# Altium schematic symbol library Ferrite Chip.SchLib: 462 symbols (part 3 of 7)
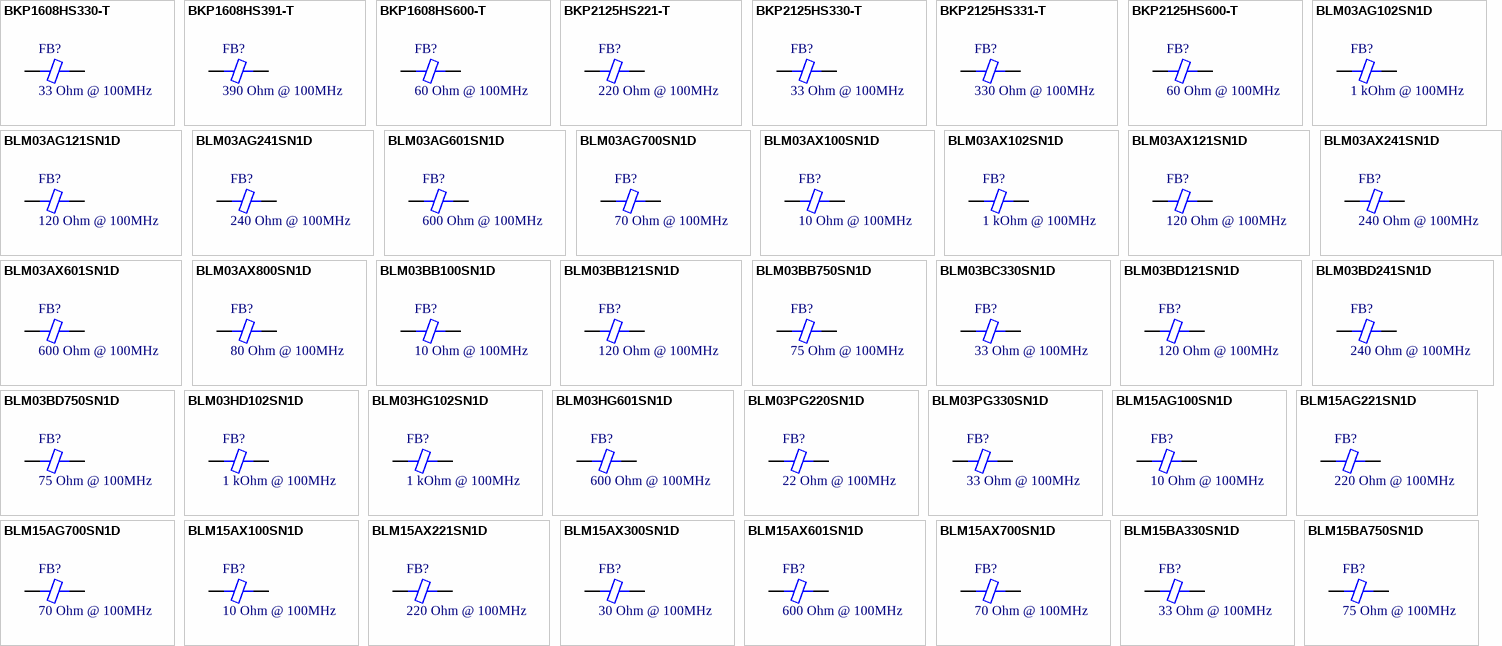
[diagram p13: symbols BKP1608HS330-T to BLM15BA750SN1D]

## BLM03BD750SN1D
designator FB?, comment 75 Ohm @ 100MHz
FERRITE BEAD 75 OHM 0201 1LN; Part Number: BLM03BD750SN1D; Manufacturer: Murata Electronics North America; DC Resistance: 400 mOhm; Current Rating: 300mA; PartId: 20390; Value: 75 Ohm @ 100MHz; Supplier 1: Digi-Key; Supplier Part Number 1: 490-5171-2-ND; ComponentLink1Description: Datasheet; ComponentLink1URL: http://www.murata.com/~/media/webrenewal/products/emiconfun/mail/2011/02/14/en-20110214/l0110s0100blm03b.ashx?la=en; ComponentLink2Description: Digi-Key Listing; ComponentLink2URL: https://www.digikey.com/product-detail/en/murata-electronics-north-america/BLM03BD750SN1D/490-5171-2-ND/1948278; Price: 0.0305; Device Package: 0201 (0603 Metric)
footprint FER 0201/0603
pins: 1, 2

## BLM03HD102SN1D
designator FB?, comment 1 kOhm @ 100MHz
FERRITE BEAD 1 KOHM 0201 1LN; Part Number: BLM03HD102SN1D; Manufacturer: Murata Electronics North America; DC Resistance: 2.9 Ohm; Current Rating: 120mA; PartId: 20362; Value: 1 kOhm @ 100MHz; Supplier 1: Digi-Key; Supplier Part Number 1: 490-11015-2-ND; ComponentLink1Description: Datasheet; ComponentLink1URL: http://search.murata.co.jp/Ceramy/image/img/PDF/ENG/L0110S0101BLM03H.pdf; ComponentLink2Description: Digi-Key Listing; ComponentLink2URL: https://www.digikey.com/product-detail/en/murata-electronics-north-america/BLM03HD102SN1D/490-11015-2-ND/2815648; Price: 0.0927; Device Package: 0201 (0603 Metric)
footprint FER 0201/0603
pins: 1, 2

## BLM03HG102SN1D
designator FB?, comment 1 kOhm @ 100MHz
FERRITE BEAD 1 KOHM 0201 1LN; Part Number: BLM03HG102SN1D; Manufacturer: Murata Electronics North America; DC Resistance: 2.6 Ohm; Current Rating: 125mA; PartId: 20361; Value: 1 kOhm @ 100MHz; Supplier 1: Digi-Key; Supplier Part Number 1: 490-5627-2-ND; ComponentLink1Description: Datasheet; ComponentLink1URL: http://search.murata.co.jp/Ceramy/image/img/PDF/ENG/L0110S0101BLM03H.pdf; ComponentLink2Description: Digi-Key Listing; ComponentLink2URL: https://www.digikey.com/product-detail/en/murata-electronics-north-america/BLM03HG102SN1D/490-5627-2-ND/2485958; Price: 0.087; Device Package: 0201 (0603 Metric)
footprint FER 0201/0603
pins: 1, 2

## BLM03HG601SN1D
designator FB?, comment 600 Ohm @ 100MHz
FERRITE BEAD 600 OHM 0201 1LN; Part Number: BLM03HG601SN1D; Manufacturer: Murata Electronics North America; DC Resistance: 1.6 Ohm; Current Rating: 150mA; PartId: 20360; Value: 600 Ohm @ 100MHz; Supplier 1: Digi-Key; Supplier Part Number 1: 490-5626-2-ND; ComponentLink1Description: Datasheet; ComponentLink1URL: http://search.murata.co.jp/Ceramy/image/img/PDF/ENG/L0110S0101BLM03H.pdf; ComponentLink2Description: Digi-Key Listing; ComponentLink2URL: https://www.digikey.com/product-detail/en/murata-electronics-north-america/BLM03HG601SN1D/490-5626-2-ND/2485957; Price: 0.087; Device Package: 0201 (0603 Metric)
footprint FER 0201/0603
pins: 1, 2

## BLM03PG220SN1D
designator FB?, comment 22 Ohm @ 100MHz
FERRITE BEAD 22 OHM 0201 1LN; Part Number: BLM03PG220SN1D; Manufacturer: Murata Electronics North America; DC Resistance: 65 mOhm; Current Rating: 900mA; PartId: 20376; Value: 22 Ohm @ 100MHz; Supplier 1: Digi-Key; Supplier Part Number 1: 490-5174-2-ND; ComponentLink1Description: Datasheet; ComponentLink1URL: http://search.murata.co.jp/Ceramy/image/img/PDF/ENG/L0110S0100BLM03PG.pdf; ComponentLink2Description: Digi-Key Listing; ComponentLink2URL: https://www.digikey.com/product-detail/en/murata-electronics-north-america/BLM03PG220SN1D/490-5174-2-ND/1948281; Price: 0.0322; Device Package: 0201 (0603 Metric)
footprint FER 0201/0603
pins: 1, 2

## BLM03PG330SN1D
designator FB?, comment 33 Ohm @ 100MHz
FERRITE BEAD 33 OHM 0201 1LN; Part Number: BLM03PG330SN1D; Manufacturer: Murata Electronics North America; DC Resistance: 90 mOhm; Current Rating: 750mA; PartId: 20375; Value: 33 Ohm @ 100MHz; Supplier 1: Digi-Key; Supplier Part Number 1: 490-5175-2-ND; ComponentLink1Description: Datasheet; ComponentLink1URL: http://search.murata.co.jp/Ceramy/image/img/PDF/ENG/L0110S0100BLM03PG.pdf; ComponentLink2Description: Digi-Key Listing; ComponentLink2URL: https://www.digikey.com/product-detail/en/murata-electronics-north-america/BLM03PG330SN1D/490-5175-2-ND/1948282; Price: 0.0322; Device Package: 0201 (0603 Metric)
footprint FER 0201/0603
pins: 1, 2

## BLM15AG100SN1D
designator FB?, comment 10 Ohm @ 100MHz
FERRITE CHIP 10 OHM 1000MA 0402; Part Number: BLM15AG100SN1D; Manufacturer: Murata Electronics North America; Type: Differential Mode - Single; DC Resistance: 50 mOhm Max; Current Rating: 1A; PartId: 6497; Value: 10 Ohm @ 100MHz; Supplier 1: Digi-Key; Supplier Part Number 1: 490-5176-2-ND; ComponentLink1Description: Datasheet; ComponentLink1URL: http://search.murata.co.jp/Ceramy/image/img/PDF/ENG/L0110S0100BLM15AG_SN.pdf; ComponentLink2Description: Digi-Key listing; ComponentLink2URL: http://digikey.com/product-detail/en/BLM15AG100SN1D/490-5176-2-ND/1948283; Price: 0.0289; Device Package: 0402 (1005 Metric)
footprint FER 0402/1005
pins: 1, 2

## BLM15AG221SN1D
designator FB?, comment 220 Ohm @ 100MHz
FERRITE CHIP 220 OHM 300MA 0402; Part Number: BLM15AG221SN1D; Manufacturer: Murata Electronics North America; Type: Differential Mode - Single; DC Resistance: 350 mOhm Max; Current Rating: 450mA; PartId: 6495; Value: 220 Ohm @ 100MHz; Supplier 1: Digi-Key; Supplier Part Number 1: 490-5178-2-ND; ComponentLink1Description: Datasheet; ComponentLink1URL: http://search.murata.co.jp/Ceramy/image/img/PDF/ENG/L0110S0100BLM15AG_SN.pdf; ComponentLink2Description: Digi-Key listing; ComponentLink2URL: http://digikey.com/product-detail/en/BLM15AG221SN1D/490-5178-2-ND/1948285; Price: 0.0289; Device Package: 0402 (1005 Metric)
footprint FER 0402/1005
pins: 1, 2

## BLM15AG700SN1D
designator FB?, comment 70 Ohm @ 100MHz
FERRITE CHIP 70 OHM 500MA 0402; Part Number: BLM15AG700SN1D; Manufacturer: Murata Electronics North America; Type: Differential Mode - Single; DC Resistance: 150 mOhm Max; Current Rating: 600mA; PartId: 6496; Value: 70 Ohm @ 100MHz; Supplier 1: Digi-Key; Supplier Part Number 1: 490-5177-2-ND; ComponentLink1Description: Datasheet; ComponentLink1URL: http://search.murata.co.jp/Ceramy/image/img/PDF/ENG/L0110S0100BLM15AG_SN.pdf; ComponentLink2Description: Digi-Key listing; ComponentLink2URL: http://digikey.com/product-detail/en/BLM15AG700SN1D/490-5177-2-ND/1948284; Price: 0.0289; Device Package: 0402 (1005 Metric)
footprint FER 0402/1005
pins: 1, 2

## BLM15AX100SN1D
designator FB?, comment 10 Ohm @ 100MHz
FERRITE CHIP 10 OHM 0402; Part Number: BLM15AX100SN1D; Manufacturer: Murata Electronics North America; Type: Differential Mode - Single; DC Resistance: 20 mOhm Max; Current Rating: 1.74A; PartId: 6528; Value: 10 Ohm @ 100MHz; Supplier 1: Digi-Key; Supplier Part Number 1: 490-5437-2-ND; ComponentLink1Description: Datasheet; ComponentLink1URL: http://search.murata.co.jp/Ceramy/image/img/PDF/ENG/L0110S0100BLM15AX_SN.pdf; ComponentLink2Description: Digi-Key listing; ComponentLink2URL: http://digikey.com/product-detail/en/BLM15AX100SN1D/490-5437-2-ND/2256872; Price: 0.0329; Device Package: 0402 (1005 Metric)
footprint FER 0402/1005
pins: 1, 2

## BLM15AX221SN1D
designator FB?, comment 220 Ohm @ 100MHz
FERRITE CHIP 220 OHM 0402; Part Number: BLM15AX221SN1D; Manufacturer: Murata Electronics North America; Type: Differential Mode - Single; DC Resistance: 180 mOhm Max; Current Rating: 580mA; PartId: 6529; Value: 220 Ohm @ 100MHz; Supplier 1: Digi-Key; Supplier Part Number 1: 490-5440-2-ND; ComponentLink1Description: Datasheet; ComponentLink1URL: http://search.murata.co.jp/Ceramy/image/img/PDF/ENG/L0110S0100BLM15AX_SN.pdf; ComponentLink2Description: Digi-Key listing; ComponentLink2URL: http://digikey.com/product-detail/en/BLM15AX221SN1D/490-5440-2-ND/2256875; Price: 0.0329; Device Package: 0402 (1005 Metric)
footprint FER 0402/1005
pins: 1, 2

## BLM15AX300SN1D
designator FB?, comment 30 Ohm @ 100MHz
FERRITE CHIP 30 OHM 1100MA 0402; Part Number: BLM15AX300SN1D; Manufacturer: Murata Electronics North America; Type: Differential Mode - Single; DC Resistance: 60 mOhm Max; Current Rating: 1.1A; PartId: 6526; Value: 30 Ohm @ 100MHz; Supplier 1: Digi-Key; Supplier Part Number 1: 490-5682-2-ND; ComponentLink1Description: Datasheet; ComponentLink1URL: http://search.murata.co.jp/Ceramy/image/img/PDF/ENG/L0110S0100BLM15AX_SN.pdf; ComponentLink2Description: Digi-Key listing; ComponentLink2URL: http://digikey.com/product-detail/en/BLM15AX300SN1D/490-5682-2-ND/2663485; Price: 0.0325; Device Package: 0402 (1005 Metric)
footprint FER 0402/1005
pins: 1, 2

## BLM15AX601SN1D
designator FB?, comment 600 Ohm @ 100MHz
FERRITE CHIP 600 OHM 0402; Part Number: BLM15AX601SN1D; Manufacturer: Murata Electronics North America; Type: Differential Mode - Single; DC Resistance: 340 mOhm Max; Current Rating: 420mA; PartId: 6527; Value: 600 Ohm @ 100MHz; Supplier 1: Digi-Key; Supplier Part Number 1: 490-5441-2-ND; ComponentLink1Description: Datasheet; ComponentLink1URL: http://search.murata.co.jp/Ceramy/image/img/PDF/ENG/L0110S0100BLM15AX_SN.pdf; ComponentLink2Description: Digi-Key listing; ComponentLink2URL: http://digikey.com/product-detail/en/BLM15AX601SN1D/490-5441-2-ND/2256876; Price: 0.0329; Device Package: 0402 (1005 Metric)
footprint FER 0402/1005
pins: 1, 2

## BLM15AX700SN1D
designator FB?, comment 70 Ohm @ 100MHz
FERRITE CHIP 70 OHM 0402; Part Number: BLM15AX700SN1D; Manufacturer: Murata Electronics North America; Type: Differential Mode - Single; DC Resistance: 100 mOhm Max; Current Rating: 780mA; PartId: 6530; Value: 70 Ohm @ 100MHz; Supplier 1: Digi-Key; Supplier Part Number 1: 490-5438-2-ND; ComponentLink1Description: Datasheet; ComponentLink1URL: http://search.murata.co.jp/Ceramy/image/img/PDF/ENG/L0110S0100BLM15AX_SN.pdf; ComponentLink2Description: Digi-Key listing; ComponentLink2URL: http://digikey.com/product-detail/en/BLM15AX700SN1D/490-5438-2-ND/2256873; Price: 0.0329; Device Package: 0402 (1005 Metric)
footprint FER 0402/1005
pins: 1, 2

## BLM15BA330SN1D
designator FB?, comment 33 Ohm @ 100MHz
FERRITE CHIP 33 OHM 300MA 0402; Part Number: BLM15BA330SN1D; Manufacturer: Murata Electronics North America; Type: Differential Mode - Single; DC Resistance: 400 mOhm Max; PartId: 6531; Value: 33 Ohm @ 100MHz; Supplier 1: Digi-Key; Supplier Part Number 1: 490-5182-2-ND; ComponentLink1Description: Datasheet; ComponentLink1URL: http://search.murata.co.jp/Ceramy/image/img/PDF/ENG/L0110S0100BLM15B.pdf; ComponentLink2Description: Digi-Key listing; ComponentLink2URL: http://digikey.com/product-detail/en/BLM15BA330SN1D/490-5182-2-ND/1948289; Price: 0.0331; Device Package: 0402 (1005 Metric); Current Rating: 300mA
footprint FER 0402/1005
pins: 1, 2

## BLM15BA750SN1D
designator FB?, comment 75 Ohm @ 100MHz
FERRITE CHIP 75 OHM 200MA 0402; Part Number: BLM15BA750SN1D; Manufacturer: Murata Electronics North America; Type: Differential Mode - Single; DC Resistance: 800 mOhm Max; PartId: 6532; Value: 75 Ohm @ 100MHz; Supplier 1: Digi-Key; Supplier Part Number 1: 490-5184-2-ND; ComponentLink1Description: Datasheet; ComponentLink1URL: http://search.murata.co.jp/Ceramy/image/img/PDF/ENG/L0110S0100BLM15B.pdf; ComponentLink2Description: Digi-Key listing; ComponentLink2URL: http://digikey.com/product-detail/en/BLM15BA750SN1D/490-5184-2-ND/1948291; Price: 0.0331; Device Package: 0402 (1005 Metric); Current Rating: 200mA
footprint FER 0402/1005
pins: 1, 2

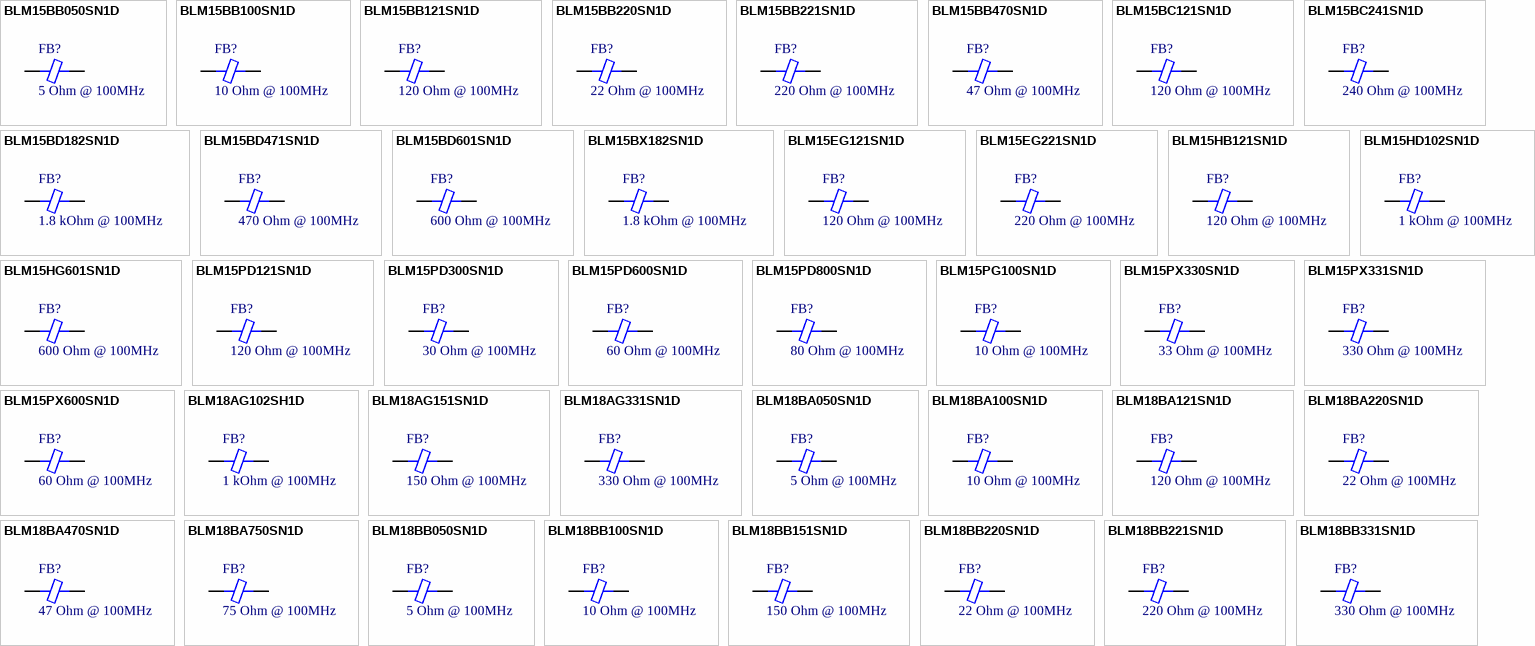
[diagram p4: symbols BLM15BB050SN1D to BLM18BB331SN1D]

## BLM15BB050SN1D
designator FB?, comment 5 Ohm @ 100MHz
FERRITE CHIP 5 OHM 500MA 0402; Part Number: BLM15BB050SN1D; Manufacturer: Murata Electronics North America; Type: Differential Mode - Single; DC Resistance: 80 mOhm Max; PartId: 6506; Value: 5 Ohm @ 100MHz; Supplier 1: Digi-Key; Supplier Part Number 1: 490-5185-2-ND; ComponentLink1Description: Datasheet; ComponentLink1URL: http://search.murata.co.jp/Ceramy/image/img/PDF/ENG/L0110S0100BLM15B.pdf; ComponentLink2Description: Digi-Key listing; ComponentLink2URL: http://digikey.com/product-detail/en/BLM15BB050SN1D/490-5185-2-ND/1948292; Price: 0.0301; Device Package: 0402 (1005 Metric); Current Rating: 500mA
footprint FER 0402/1005
pins: 1, 2

## BLM15BB100SN1D
designator FB?, comment 10 Ohm @ 100MHz
FERRITE CHIP 10 OHM 300MA 0402; Part Number: BLM15BB100SN1D; Manufacturer: Murata Electronics North America; Type: Differential Mode - Single; DC Resistance: 100 mOhm Max; PartId: 6504; Value: 10 Ohm @ 100MHz; Supplier 1: Digi-Key; Supplier Part Number 1: 490-5186-2-ND; ComponentLink1Description: Datasheet; ComponentLink1URL: http://search.murata.co.jp/Ceramy/image/img/PDF/ENG/L0110S0100BLM15B.pdf; ComponentLink2Description: Digi-Key listing; ComponentLink2URL: http://digikey.com/product-detail/en/BLM15BB100SN1D/490-5186-2-ND/1948293; Price: 0.0301; Device Package: 0402 (1005 Metric); Current Rating: 300mA
footprint FER 0402/1005
pins: 1, 2

## BLM15BB121SN1D
designator FB?, comment 120 Ohm @ 100MHz
FERRITE CHIP 120 OHM 300MA 0402; Part Number: BLM15BB121SN1D; Manufacturer: Murata Electronics North America; Type: Differential Mode - Single; DC Resistance: 550 mOhm Max; PartId: 6499; Value: 120 Ohm @ 100MHz; Supplier 1: Digi-Key; Supplier Part Number 1: 490-1008-2-ND; ComponentLink1Description: Datasheet; ComponentLink1URL: http://search.murata.co.jp/Ceramy/image/img/PDF/ENG/L0110S0100BLM15B.pdf; ComponentLink2Description: Digi-Key listing; ComponentLink2URL: http://digikey.com/product-detail/en/BLM15BB121SN1D/490-1008-2-ND/584219; Price: 0.0301; Device Package: 0402 (1005 Metric); Current Rating: 300mA
footprint FER 0402/1005
pins: 1, 2

## BLM15BB220SN1D
designator FB?, comment 22 Ohm @ 100MHz
FERRITE CHIP 22 OHM 300MA 0402; Part Number: BLM15BB220SN1D; Manufacturer: Murata Electronics North America; Type: Differential Mode - Single; DC Resistance: 200 mOhm Max; PartId: 6509; Value: 22 Ohm @ 100MHz; Supplier 1: Digi-Key; Supplier Part Number 1: 490-5187-2-ND; ComponentLink1Description: Datasheet; ComponentLink1URL: http://search.murata.co.jp/Ceramy/image/img/PDF/ENG/L0110S0100BLM15B.pdf; ComponentLink2Description: Digi-Key listing; ComponentLink2URL: http://digikey.com/product-detail/en/BLM15BB220SN1D/490-5187-2-ND/1948294; Price: 0.0301; Device Package: 0402 (1005 Metric); Current Rating: 300mA
footprint FER 0402/1005
pins: 1, 2

## BLM15BB221SN1D
designator FB?, comment 220 Ohm @ 100MHz
FERRITE CHIP 220 OHM 200MA 0402; Part Number: BLM15BB221SN1D; Manufacturer: Murata Electronics North America; Type: Differential Mode - Single; DC Resistance: 800 mOhm Max; PartId: 6511; Value: 220 Ohm @ 100MHz; Supplier 1: Digi-Key; Supplier Part Number 1: 490-5190-2-ND; ComponentLink1Description: Datasheet; ComponentLink1URL: http://search.murata.co.jp/Ceramy/image/img/PDF/ENG/L0110S0100BLM15B.pdf; ComponentLink2Description: Digi-Key listing; ComponentLink2URL: http://digikey.com/product-detail/en/BLM15BB221SN1D/490-5190-2-ND/1948297; Price: 0.0301; Device Package: 0402 (1005 Metric); Current Rating: 200mA
footprint FER 0402/1005
pins: 1, 2

## BLM15BB470SN1D
designator FB?, comment 47 Ohm @ 100MHz
FERRITE CHIP 47 OHM 300MA 0402; Part Number: BLM15BB470SN1D; Manufacturer: Murata Electronics North America; Type: Differential Mode - Single; DC Resistance: 350 mOhm Max; PartId: 6510; Value: 47 Ohm @ 100MHz; Supplier 1: Digi-Key; Supplier Part Number 1: 490-5188-2-ND; ComponentLink1Description: Datasheet; ComponentLink1URL: http://search.murata.co.jp/Ceramy/image/img/PDF/ENG/L0110S0100BLM15B.pdf; ComponentLink2Description: Digi-Key listing; ComponentLink2URL: http://digikey.com/product-detail/en/BLM15BB470SN1D/490-5188-2-ND/1948295; Price: 0.0301; Device Package: 0402 (1005 Metric); Current Rating: 300mA
footprint FER 0402/1005
pins: 1, 2

## BLM15BC121SN1D
designator FB?, comment 120 Ohm @ 100MHz
FERRITE CHIP 120 OHM 0402; Part Number: BLM15BC121SN1D; Manufacturer: Murata Electronics North America; Type: Differential Mode - Single; DC Resistance: 450 mOhm Max; Current Rating: 350mA; PartId: 6513; Value: 120 Ohm @ 100MHz; Supplier 1: Digi-Key; Supplier Part Number 1: 490-5443-2-ND; ComponentLink1Description: Datasheet; ComponentLink1URL: http://search.murata.co.jp/Ceramy/image/img/PDF/ENG/L0110S0100BLM15B.pdf; ComponentLink2Description: Digi-Key listing; ComponentLink2URL: http://digikey.com/product-detail/en/BLM15BC121SN1D/490-5443-2-ND/2256878; Price: 0.0301; Device Package: 0402 (1005 Metric)
footprint FER 0402/1005
pins: 1, 2

## BLM15BC241SN1D
designator FB?, comment 240 Ohm @ 100MHz
FERRITE CHIP 240 OHM 0402; Part Number: BLM15BC241SN1D; Manufacturer: Murata Electronics North America; Type: Differential Mode - Single; DC Resistance: 700 mOhm Max; Current Rating: 250mA; PartId: 6515; Value: 240 Ohm @ 100MHz; Supplier 1: Digi-Key; Supplier Part Number 1: 490-5444-2-ND; ComponentLink1Description: Datasheet; ComponentLink1URL: http://search.murata.co.jp/Ceramy/image/img/PDF/ENG/L0110S0100BLM15B.pdf; ComponentLink2Description: Digi-Key listing; ComponentLink2URL: http://digikey.com/product-detail/en/BLM15BC241SN1D/490-5444-2-ND/2256879; Price: 0.0301; Device Package: 0402 (1005 Metric)
footprint FER 0402/1005
pins: 1, 2

## BLM15BD182SN1D
designator FB?, comment 1.8 kOhm @ 100MHz
FERRITE CHIP 1800 OHM 100MA 0402; Part Number: BLM15BD182SN1D; Manufacturer: Murata Electronics North America; Type: Differential Mode - Single; DC Resistance: 1.4 Ohm Max; PartId: 6538; Value: 1.8 kOhm @ 100MHz; Supplier 1: Digi-Key; Supplier Part Number 1: 490-5195-2-ND; ComponentLink1Description: Datasheet; ComponentLink1URL: http://search.murata.co.jp/Ceramy/image/img/PDF/ENG/L0110S0100BLM15B.pdf; ComponentLink2Description: Digi-Key listing; ComponentLink2URL: http://digikey.com/product-detail/en/BLM15BD182SN1D/490-5195-2-ND/1948301; Price: 0.0376; Device Package: 0402 (1005 Metric); Current Rating: 100mA
footprint FER 0402/1005
pins: 1, 2

## BLM15BD471SN1D
designator FB?, comment 470 Ohm @ 100MHz
FERRITE CHIP 470 OHM 200MA 0402; Part Number: BLM15BD471SN1D; Manufacturer: Murata Electronics North America; Type: Differential Mode - Single; DC Resistance: 600 mOhm Max; PartId: 6508; Value: 470 Ohm @ 100MHz; Supplier 1: Digi-Key; Supplier Part Number 1: 490-5194-2-ND; ComponentLink1Description: Datasheet; ComponentLink1URL: http://search.murata.co.jp/Ceramy/image/img/PDF/ENG/L0110S0100BLM15B.pdf; ComponentLink2Description: Digi-Key listing; ComponentLink2URL: http://digikey.com/product-detail/en/BLM15BD471SN1D/490-5194-2-ND/1948300; Price: 0.0301; Device Package: 0402 (1005 Metric); Current Rating: 200mA
footprint FER 0402/1005
pins: 1, 2

## BLM15BD601SN1D
designator FB?, comment 600 Ohm @ 100MHz
FERRITE CHIP 600 OHM 200MA 0402; Part Number: BLM15BD601SN1D; Manufacturer: Murata Electronics North America; Type: Differential Mode - Single; DC Resistance: 650 mOhm Max; PartId: 6500; Value: 600 Ohm @ 100MHz; Supplier 1: Digi-Key; Supplier Part Number 1: 490-1009-2-ND; ComponentLink1Description: Datasheet; ComponentLink1URL: http://search.murata.co.jp/Ceramy/image/img/PDF/ENG/L0110S0100BLM15B.pdf; ComponentLink2Description: Digi-Key listing; ComponentLink2URL: http://digikey.com/product-detail/en/BLM15BD601SN1D/490-1009-2-ND/584220; Price: 0.0301; Device Package: 0402 (1005 Metric); Current Rating: 200mA
footprint FER 0402/1005
pins: 1, 2

## BLM15BX182SN1D
designator FB?, comment 1.8 kOhm @ 100MHz
FERRITE CHIP 1800 OHM 0402; Part Number: BLM15BX182SN1D; Manufacturer: Murata Electronics North America; DC Resistance: 900 mOhm Max; Current Rating: 250mA; PartId: 6539; Value: 1.8 kOhm @ 100MHz; Supplier 1: Digi-Key; Supplier Part Number 1: 490-10660-2-ND; ComponentLink1Description: Datasheet; ComponentLink1URL: http://search.murata.co.jp/Ceramy/image/img/PDF/ENG/L0110S0100BLM15BX.pdf; ComponentLink2Description: Digi-Key listing; ComponentLink2URL: http://digikey.com/product-detail/en/BLM15BX182SN1D/490-10660-2-ND/4421090; Price: 0.0395; Type: -; Device Package: 0402 (1005 Metric)
footprint FER 0402/1005
pins: 1, 2

## BLM15EG121SN1D
designator FB?, comment 120 Ohm @ 100MHz
FERRITE CHIP 120 OHM 1.5A 0402; Part Number: BLM15EG121SN1D; Manufacturer: Murata Electronics North America; Type: Differential Mode - Single; DC Resistance: 95 mOhm Max; PartId: 6556; Value: 120 Ohm @ 100MHz; Supplier 1: Digi-Key; Supplier Part Number 1: 490-4004-2-ND; ComponentLink1Description: Datasheet; ComponentLink1URL: http://search.murata.co.jp/Ceramy/image/img/PDF/ENG/L0110S0101BLM15EG.pdf; ComponentLink2Description: Digi-Key listing; ComponentLink2URL: http://digikey.com/product-detail/en/BLM15EG121SN1D/490-4004-2-ND/1016163; Price: 0.0853; Device Package: 0402 (1005 Metric); Current Rating: 1.5A
footprint FER 0402/1005
pins: 1, 2

## BLM15EG221SN1D
designator FB?, comment 220 Ohm @ 100MHz
FERRITE CHIP 220 OHM 700MA 0402; Part Number: BLM15EG221SN1D; Manufacturer: Murata Electronics North America; Type: Differential Mode - Single; DC Resistance: 280 mOhm Max; PartId: 6555; Value: 220 Ohm @ 100MHz; Supplier 1: Digi-Key; Supplier Part Number 1: 490-4005-2-ND; ComponentLink1Description: Datasheet; ComponentLink1URL: http://search.murata.co.jp/Ceramy/image/img/PDF/ENG/L0110S0101BLM15EG.pdf; ComponentLink2Description: Digi-Key listing; ComponentLink2URL: http://digikey.com/product-detail/en/BLM15EG221SN1D/490-4005-2-ND/1016164; Price: 0.0853; Device Package: 0402 (1005 Metric); Current Rating: 700mA
footprint FER 0402/1005
pins: 1, 2

## BLM15HB121SN1D
designator FB?, comment 120 Ohm @ 100MHz
FERRITE CHIP 120 OHM 300MA 0402; Part Number: BLM15HB121SN1D; Manufacturer: Murata Electronics North America; Type: Differential Mode - Single; DC Resistance: 700 mOhm Max; PartId: 6553; Value: 120 Ohm @ 100MHz; Supplier 1: Digi-Key; Supplier Part Number 1: 490-4000-2-ND; ComponentLink1Description: Datasheet; ComponentLink1URL: http://search.murata.co.jp/Ceramy/image/img/PDF/ENG/L0110S0101BLM15H.pdf; ComponentLink2Description: Digi-Key listing; ComponentLink2URL: http://digikey.com/product-detail/en/BLM15HB121SN1D/490-4000-2-ND/1016159; Price: 0.073; Device Package: 0402 (1005 Metric); Current Rating: 300mA
footprint FER 0402/1005
pins: 1, 2

## BLM15HD102SN1D
designator FB?, comment 1 kOhm @ 100MHz
FERRITE CHIP 1000 OHM 250MA 0402; Part Number: BLM15HD102SN1D; Manufacturer: Murata Electronics North America; Type: Differential Mode - Single; DC Resistance: 1.25 Ohm Max; PartId: 6552; Value: 1 kOhm @ 100MHz; Supplier 1: Digi-Key; Supplier Part Number 1: 490-4003-2-ND; ComponentLink1Description: Datasheet; ComponentLink1URL: http://search.murata.co.jp/Ceramy/image/img/PDF/ENG/L0110S0101BLM15H.pdf; ComponentLink2Description: Digi-Key listing; ComponentLink2URL: http://digikey.com/product-detail/en/BLM15HD102SN1D/490-4003-2-ND/1016162; Price: 0.073; Device Package: 0402 (1005 Metric); Current Rating: 250mA
footprint FER 0402/1005
pins: 1, 2

## BLM15HG601SN1D
designator FB?, comment 600 Ohm @ 100MHz
FERRITE CHIP 600 OHM 300MA 0402; Part Number: BLM15HG601SN1D; Manufacturer: Murata Electronics North America; Type: Differential Mode - Single; DC Resistance: 700 mOhm Max; PartId: 6554; Value: 600 Ohm @ 100MHz; Supplier 1: Digi-Key; Supplier Part Number 1: 490-3998-2-ND; ComponentLink1Description: Datasheet; ComponentLink1URL: http://search.murata.co.jp/Ceramy/image/img/PDF/ENG/L0110S0101BLM15H.pdf; ComponentLink2Description: Digi-Key listing; ComponentLink2URL: http://digikey.com/product-detail/en/BLM15HG601SN1D/490-3998-2-ND/1016157; Price: 0.073; Device Package: 0402 (1005 Metric); Current Rating: 300mA
footprint FER 0402/1005
pins: 1, 2

## BLM15PD121SN1D
designator FB?, comment 120 Ohm @ 100MHz
FERRITE CHIP 120 OHM 1300MA 0402; Part Number: BLM15PD121SN1D; Manufacturer: Murata Electronics North America; Type: Differential Mode - Single; DC Resistance: 90 mOhm Max; Current Rating: 1.3A; PartId: 6533; Value: 120 Ohm @ 100MHz; Supplier 1: Digi-Key; Supplier Part Number 1: 490-5203-2-ND; ComponentLink1Description: Datasheet; ComponentLink1URL: http://search.murata.co.jp/Ceramy/image/img/PDF/ENG/L0110S0100BLM15PG~BLM15PD.pdf; ComponentLink2Description: Digi-Key listing; ComponentLink2URL: http://digikey.com/product-detail/en/BLM15PD121SN1D/490-5203-2-ND/1948309; Price: 0.0351; Device Package: 0402 (1005 Metric)
footprint FER 0402/1005
pins: 1, 2

## BLM15PD300SN1D
designator FB?, comment 30 Ohm @ 100MHz
FERRITE CHIP 30 OHM 2200MA 0402; Part Number: BLM15PD300SN1D; Manufacturer: Murata Electronics North America; Type: Differential Mode - Single; DC Resistance: 35 mOhm Max; Current Rating: 2.2A; PartId: 6534; Value: 30 Ohm @ 100MHz; Supplier 1: Digi-Key; Supplier Part Number 1: 490-5200-2-ND; ComponentLink1Description: Datasheet; ComponentLink1URL: http://search.murata.co.jp/Ceramy/image/img/PDF/ENG/L0110S0100BLM15PG~BLM15PD.pdf; ComponentLink2Description: Digi-Key listing; ComponentLink2URL: http://digikey.com/product-detail/en/BLM15PD300SN1D/490-5200-2-ND/1948306; Price: 0.0351; Device Package: 0402 (1005 Metric)
footprint FER 0402/1005
pins: 1, 2

## BLM15PD600SN1D
designator FB?, comment 60 Ohm @ 100MHz
FERRITE CHIP 60 OHM 1700MA 0402; Part Number: BLM15PD600SN1D; Manufacturer: Murata Electronics North America; Type: Differential Mode - Single; DC Resistance: 60 mOhm Max; Current Rating: 1.7A; PartId: 6536; Value: 60 Ohm @ 100MHz; Supplier 1: Digi-Key; Supplier Part Number 1: 490-5201-2-ND; ComponentLink1Description: Datasheet; ComponentLink1URL: http://search.murata.co.jp/Ceramy/image/img/PDF/ENG/L0110S0100BLM15PG~BLM15PD.pdf; ComponentLink2Description: Digi-Key listing; ComponentLink2URL: http://digikey.com/product-detail/en/BLM15PD600SN1D/490-5201-2-ND/1948307; Price: 0.0351; Device Package: 0402 (1005 Metric)
footprint FER 0402/1005
pins: 1, 2

## BLM15PD800SN1D
designator FB?, comment 80 Ohm @ 100MHz
FERRITE CHIP 80 OHM 1500MA 0402; Part Number: BLM15PD800SN1D; Manufacturer: Murata Electronics North America; Type: Differential Mode - Single; DC Resistance: 70 mOhm Max; Current Rating: 1.5A; PartId: 6535; Value: 80 Ohm @ 100MHz; Supplier 1: Digi-Key; Supplier Part Number 1: 490-5202-2-ND; ComponentLink1Description: Datasheet; ComponentLink1URL: http://search.murata.co.jp/Ceramy/image/img/PDF/ENG/L0110S0100BLM15PG~BLM15PD.pdf; ComponentLink2Description: Digi-Key listing; ComponentLink2URL: http://digikey.com/product-detail/en/BLM15PD800SN1D/490-5202-2-ND/1948308; Price: 0.0351; Device Package: 0402 (1005 Metric)
footprint FER 0402/1005
pins: 1, 2

## BLM15PG100SN1D
designator FB?, comment 10 Ohm @ 100MHz
FERRITE CHIP 10 OHM 1A 0402; Part Number: BLM15PG100SN1D; Manufacturer: Murata Electronics North America; Type: Differential Mode - Single; DC Resistance: 50 mOhm Max; PartId: 6537; Value: 10 Ohm @ 100MHz; Supplier 1: Digi-Key; Supplier Part Number 1: 490-5976-2-ND; ComponentLink1Description: Datasheet; ComponentLink1URL: http://search.murata.co.jp/Ceramy/image/img/PDF/ENG/L0110S0100BLM15PG~BLM15PD.pdf; ComponentLink2Description: Digi-Key listing; ComponentLink2URL: http://digikey.com/product-detail/en/BLM15PG100SN1D/490-5976-2-ND/2587980; Price: 0.0351; Device Package: 0402 (1005 Metric); Current Rating: 1A
footprint FER 0402/1005
pins: 1, 2

## BLM15PX330SN1D
designator FB?, comment 33 Ohm @ 100MHz
FERRITE CHIP 33 OHM 0402; Part Number: BLM15PX330SN1D; Manufacturer: Murata Electronics North America; DC Resistance: 22 mOhm Max; Current Rating: 3A; PartId: 6544; Value: 33 Ohm @ 100MHz; Supplier 1: Digi-Key; Supplier Part Number 1: 490-10661-2-ND; ComponentLink1Description: Datasheet; ComponentLink1URL: http://search.murata.co.jp/Ceramy/image/img/PDF/ENG/L0110S0100BLM15PX.pdf; ComponentLink2Description: Digi-Key listing; ComponentLink2URL: http://digikey.com/product-detail/en/BLM15PX330SN1D/490-10661-2-ND/4421098; Price: 0.048; Type: -; Device Package: 0402 (1005 Metric)
footprint FER 0402/1005
pins: 1, 2

## BLM15PX331SN1D
designator FB?, comment 330 Ohm @ 100MHz
FERRITE CHIP 330 OHM 0402; Part Number: BLM15PX331SN1D; Manufacturer: Murata Electronics North America; DC Resistance: 150 mOhm Max; Current Rating: 1.2A; PartId: 6545; Value: 330 Ohm @ 100MHz; Supplier 1: Digi-Key; Supplier Part Number 1: 490-11022-2-ND; ComponentLink1Description: Datasheet; ComponentLink1URL: http://search.murata.co.jp/Ceramy/image/img/PDF/ENG/L0110S0100BLM15PX.pdf; ComponentLink2Description: Digi-Key listing; ComponentLink2URL: http://digikey.com/product-detail/en/BLM15PX331SN1D/490-11022-2-ND/4421099; Price: 0.048; Type: -; Device Package: 0402 (1005 Metric)
footprint FER 0402/1005
pins: 1, 2

## BLM15PX600SN1D
designator FB?, comment 60 Ohm @ 100MHz
FERRITE CHIP 60 OHM 0402; Part Number: BLM15PX600SN1D; Manufacturer: Murata Electronics North America; DC Resistance: 32 mOhm Max; Current Rating: 2.5A; PartId: 6546; Value: 60 Ohm @ 100MHz; Supplier 1: Digi-Key; Supplier Part Number 1: 490-11023-2-ND; ComponentLink1Description: Datasheet; ComponentLink1URL: http://search.murata.co.jp/Ceramy/image/img/PDF/ENG/L0110S0100BLM15PX.pdf; ComponentLink2Description: Digi-Key listing; ComponentLink2URL: http://digikey.com/product-detail/en/BLM15PX600SN1D/490-11023-2-ND/4421101; Price: 0.048; Type: -; Device Package: 0402 (1005 Metric)
footprint FER 0402/1005
pins: 1, 2

## BLM18AG102SH1D
designator FB?, comment 1 kOhm @ 100MHz
FERRITE CHIP 1K OHM 400MA 0603; Part Number: BLM18AG102SH1D; Manufacturer: Murata Electronics North America; Type: Differential Mode - Single; DC Resistance: 500 mOhm Max; PartId: 6720; Value: 1 kOhm @ 100MHz; Supplier 1: Digi-Key; Supplier Part Number 1: 490-7809-2-ND; ComponentLink1Description: Datasheet; ComponentLink1URL: http://search.murata.co.jp/Ceramy/image/img/PDF/ENG/L0132S0193BLM18A.pdf; ComponentLink2Description: Digi-Key listing; ComponentLink2URL: http://digikey.com/product-detail/en/BLM18AG102SH1D/490-7809-2-ND/2587981; Price: 0.0357; Device Package: 0603 (1608 Metric); Current Rating: 400mA
footprint FER 0603/1608
pins: 1, 2

## BLM18AG151SN1D
designator FB?, comment 150 Ohm @ 100MHz
FERRITE CHIP 150 OHM 500MA 0603; Part Number: BLM18AG151SN1D; Manufacturer: Murata Electronics North America; Type: Differential Mode - Single; DC Resistance: 250 mOhm Max; PartId: 6655; Value: 150 Ohm @ 100MHz; Supplier 1: Digi-Key; Supplier Part Number 1: 490-5244-2-ND; ComponentLink1Description: Datasheet; ComponentLink1URL: http://search.murata.co.jp/Ceramy/image/img/PDF/ENG/L0110S0100BLM18A.pdf; ComponentLink2Description: Digi-Key listing; ComponentLink2URL: http://digikey.com/product-detail/en/BLM18AG151SN1D/490-5244-2-ND/1982752; Price: 0.0301; Device Package: 0603 (1608 Metric); Current Rating: 500mA
footprint FER 0603/1608
pins: 1, 2

## BLM18AG331SN1D
designator FB?, comment 330 Ohm @ 100MHz
FERRITE CHIP 330 OHM 500MA 0603; Part Number: BLM18AG331SN1D; Manufacturer: Murata Electronics North America; Type: Differential Mode - Single; DC Resistance: 300 mOhm Max; PartId: 6651; Value: 330 Ohm @ 100MHz; Supplier 1: Digi-Key; Supplier Part Number 1: 490-5245-2-ND; ComponentLink1Description: Datasheet; ComponentLink1URL: http://search.murata.co.jp/Ceramy/image/img/PDF/ENG/L0110S0100BLM18A.pdf; ComponentLink2Description: Digi-Key listing; ComponentLink2URL: http://digikey.com/product-detail/en/BLM18AG331SN1D/490-5245-2-ND/1982753; Price: 0.0301; Device Package: 0603 (1608 Metric); Current Rating: 500mA
footprint FER 0603/1608
pins: 1, 2

## BLM18BA050SN1D
designator FB?, comment 5 Ohm @ 100MHz
FERRITE CHIP 5 OHM 500MA 0603; Part Number: BLM18BA050SN1D; Manufacturer: Murata Electronics North America; Type: Differential Mode - Single; DC Resistance: 200 mOhm Max; PartId: 6689; Value: 5 Ohm @ 100MHz; Supplier 1: Digi-Key; Supplier Part Number 1: 490-5204-2-ND; ComponentLink1Description: Datasheet; ComponentLink1URL: http://search.murata.co.jp/Ceramy/image/img/PDF/ENG/L0110S0100BLM18B.pdf; ComponentLink2Description: Digi-Key listing; ComponentLink2URL: http://digikey.com/product-detail/en/BLM18BA050SN1D/490-5204-2-ND/1948310; Price: 0.0323; Device Package: 0603 (1608 Metric); Current Rating: 500mA
footprint FER 0603/1608
pins: 1, 2

## BLM18BA100SN1D
designator FB?, comment 10 Ohm @ 100MHz
FERRITE CHIP 10 OHM 500MA 0603; Part Number: BLM18BA100SN1D; Manufacturer: Murata Electronics North America; Type: Differential Mode - Single; DC Resistance: 250 mOhm Max; PartId: 6688; Value: 10 Ohm @ 100MHz; Supplier 1: Digi-Key; Supplier Part Number 1: 490-5205-2-ND; ComponentLink1Description: Datasheet; ComponentLink1URL: http://search.murata.co.jp/Ceramy/image/img/PDF/ENG/L0110S0100BLM18B.pdf; ComponentLink2Description: Digi-Key listing; ComponentLink2URL: http://digikey.com/product-detail/en/BLM18BA100SN1D/490-5205-2-ND/1948311; Price: 0.0323; Device Package: 0603 (1608 Metric); Current Rating: 500mA
footprint FER 0603/1608
pins: 1, 2

## BLM18BA121SN1D
designator FB?, comment 120 Ohm @ 100MHz
FERRITE CHIP 120 OHM 200MA 0603; Part Number: BLM18BA121SN1D; Manufacturer: Murata Electronics North America; Type: Differential Mode - Single; DC Resistance: 900 mOhm Max; PartId: 6686; Value: 120 Ohm @ 100MHz; Supplier 1: Digi-Key; Supplier Part Number 1: 490-1019-2-ND; ComponentLink1Description: Datasheet; ComponentLink1URL: http://search.murata.co.jp/Ceramy/image/img/PDF/ENG/L0110S0100BLM18B.pdf; ComponentLink2Description: Digi-Key listing; ComponentLink2URL: http://digikey.com/product-detail/en/BLM18BA121SN1D/490-1019-2-ND/584230; Price: 0.0323; Device Package: 0603 (1608 Metric); Current Rating: 200mA
footprint FER 0603/1608
pins: 1, 2

## BLM18BA220SN1D
designator FB?, comment 22 Ohm @ 100MHz
FERRITE CHIP 22 OHM 500MA 0603; Part Number: BLM18BA220SN1D; Manufacturer: Murata Electronics North America; Type: Differential Mode - Single; DC Resistance: 350 mOhm Max; PartId: 6684; Value: 22 Ohm @ 100MHz; Supplier 1: Digi-Key; Supplier Part Number 1: 490-1016-2-ND; ComponentLink1Description: Datasheet; ComponentLink1URL: http://search.murata.co.jp/Ceramy/image/img/PDF/ENG/L0110S0100BLM18B.pdf; ComponentLink2Description: Digi-Key listing; ComponentLink2URL: http://digikey.com/product-detail/en/BLM18BA220SN1D/490-1016-2-ND/584227; Price: 0.0323; Device Package: 0603 (1608 Metric); Current Rating: 500mA
footprint FER 0603/1608
pins: 1, 2

## BLM18BA470SN1D
designator FB?, comment 47 Ohm @ 100MHz
FERRITE CHIP 47 OHM 300MA 0603; Part Number: BLM18BA470SN1D; Manufacturer: Murata Electronics North America; Type: Differential Mode - Single; DC Resistance: 550 mOhm Max; PartId: 6683; Value: 47 Ohm @ 100MHz; Supplier 1: Digi-Key; Supplier Part Number 1: 490-1017-2-ND; ComponentLink1Description: Datasheet; ComponentLink1URL: http://search.murata.co.jp/Ceramy/image/img/PDF/ENG/L0110S0100BLM18B.pdf; ComponentLink2Description: Digi-Key listing; ComponentLink2URL: http://digikey.com/product-detail/en/BLM18BA470SN1D/490-1017-2-ND/584228; Price: 0.0323; Device Package: 0603 (1608 Metric); Current Rating: 300mA
footprint FER 0603/1608
pins: 1, 2

## BLM18BA750SN1D
designator FB?, comment 75 Ohm @ 100MHz
FERRITE CHIP 75 OHM 300MA 0603; Part Number: BLM18BA750SN1D; Manufacturer: Murata Electronics North America; Type: Differential Mode - Single; DC Resistance: 700 mOhm Max; PartId: 6685; Value: 75 Ohm @ 100MHz; Supplier 1: Digi-Key; Supplier Part Number 1: 490-1018-2-ND; ComponentLink1Description: Datasheet; ComponentLink1URL: http://search.murata.co.jp/Ceramy/image/img/PDF/ENG/L0110S0100BLM18B.pdf; ComponentLink2Description: Digi-Key listing; ComponentLink2URL: http://digikey.com/product-detail/en/BLM18BA750SN1D/490-1018-2-ND/584229; Price: 0.0323; Device Package: 0603 (1608 Metric); Current Rating: 300mA
footprint FER 0603/1608
pins: 1, 2

## BLM18BB050SN1D
designator FB?, comment 5 Ohm @ 100MHz
FERRITE CHIP 5 OHM 700MA 0603; Part Number: BLM18BB050SN1D; Manufacturer: Murata Electronics North America; Type: Differential Mode - Single; DC Resistance: 50 mOhm Max; PartId: 6703; Value: 5 Ohm @ 100MHz; Supplier 1: Digi-Key; Supplier Part Number 1: 490-5206-2-ND; ComponentLink1Description: Datasheet; ComponentLink1URL: http://search.murata.co.jp/Ceramy/image/img/PDF/ENG/L0110S0100BLM18B.pdf; ComponentLink2Description: Digi-Key listing; ComponentLink2URL: http://digikey.com/product-detail/en/BLM18BB050SN1D/490-5206-2-ND/1212451; Price: 0.0331; Device Package: 0603 (1608 Metric); Current Rating: 700mA
footprint FER 0603/1608
pins: 1, 2

## BLM18BB100SN1D
designator FB?, comment 10 Ohm @ 100MHz
FERRITE CHIP 10 OHM 700MA 0603; Part Number: BLM18BB100SN1D; Manufacturer: Murata Electronics North America; Type: Differential Mode - Single; DC Resistance: 100 mOhm Max; PartId: 6706; Value: 10 Ohm @ 100MHz; Supplier 1: Digi-Key; Supplier Part Number 1: 490-5207-2-ND; ComponentLink1Description: Datasheet; ComponentLink1URL: http://search.murata.co.jp/Ceramy/image/img/PDF/ENG/L0110S0100BLM18B.pdf; ComponentLink2Description: Digi-Key listing; ComponentLink2URL: http://digikey.com/product-detail/en/BLM18BB100SN1D/490-5207-2-ND/1948312; Price: 0.0331; Device Package: 0603 (1608 Metric); Current Rating: 700mA
footprint FER 0603/1608
pins: 1, 2

## BLM18BB151SN1D
designator FB?, comment 150 Ohm @ 100MHz
FERRITE CHIP 150 OHM 450MA 0603; Part Number: BLM18BB151SN1D; Manufacturer: Murata Electronics North America; Type: Differential Mode - Single; DC Resistance: 370 mOhm Max; PartId: 6710; Value: 150 Ohm @ 100MHz; Supplier 1: Digi-Key; Supplier Part Number 1: 490-5248-2-ND; ComponentLink1Description: Datasheet; ComponentLink1URL: http://search.murata.co.jp/Ceramy/image/img/PDF/ENG/L0110S0100BLM18B.pdf; ComponentLink2Description: Digi-Key listing; ComponentLink2URL: http://digikey.com/product-detail/en/BLM18BB151SN1D/490-5248-2-ND/1982756; Price: 0.0331; Device Package: 0603 (1608 Metric); Current Rating: 450mA
footprint FER 0603/1608
pins: 1, 2

## BLM18BB220SN1D
designator FB?, comment 22 Ohm @ 100MHz
FERRITE CHIP 22 OHM 600MA 0603; Part Number: BLM18BB220SN1D; Manufacturer: Murata Electronics North America; Type: Differential Mode - Single; DC Resistance: 200 mOhm Max; PartId: 6705; Value: 22 Ohm @ 100MHz; Supplier 1: Digi-Key; Supplier Part Number 1: 490-5246-2-ND; ComponentLink1Description: Datasheet; ComponentLink1URL: http://search.murata.co.jp/Ceramy/image/img/PDF/ENG/L0110S0100BLM18B.pdf; ComponentLink2Description: Digi-Key listing; ComponentLink2URL: http://digikey.com/product-detail/en/BLM18BB220SN1D/490-5246-2-ND/1982754; Price: 0.0331; Device Package: 0603 (1608 Metric); Current Rating: 600mA
footprint FER 0603/1608
pins: 1, 2

## BLM18BB221SN1D
designator FB?, comment 220 Ohm @ 100MHz
FERRITE CHIP 220 OHM 450MA 0603; Part Number: BLM18BB221SN1D; Manufacturer: Murata Electronics North America; Type: Differential Mode - Single; DC Resistance: 450 mOhm Max; PartId: 6696; Value: 220 Ohm @ 100MHz; Supplier 1: Digi-Key; Supplier Part Number 1: 490-5210-2-ND; ComponentLink1Description: Datasheet; ComponentLink1URL: http://search.murata.co.jp/Ceramy/image/img/PDF/ENG/L0110S0100BLM18B.pdf; ComponentLink2Description: Digi-Key listing; ComponentLink2URL: http://digikey.com/product-detail/en/BLM18BB221SN1D/490-5210-2-ND/1948315; Price: 0.0331; Device Package: 0603 (1608 Metric); Current Rating: 450mA
footprint FER 0603/1608
pins: 1, 2

## BLM18BB331SN1D
designator FB?, comment 330 Ohm @ 100MHz
FERRITE CHIP 330 OHM 400MA 0603; Part Number: BLM18BB331SN1D; Manufacturer: Murata Electronics North America; Type: Differential Mode - Single; DC Resistance: 580 mOhm Max; PartId: 6708; Value: 330 Ohm @ 100MHz; Supplier 1: Digi-Key; Supplier Part Number 1: 490-5249-2-ND; ComponentLink1Description: Datasheet; ComponentLink1URL: http://search.murata.co.jp/Ceramy/image/img/PDF/ENG/L0110S0100BLM18B.pdf; ComponentLink2Description: Digi-Key listing; ComponentLink2URL: http://digikey.com/product-detail/en/BLM18BB331SN1D/490-5249-2-ND/1982757; Price: 0.0331; Device Package: 0603 (1608 Metric); Current Rating: 400mA
footprint FER 0603/1608
pins: 1, 2

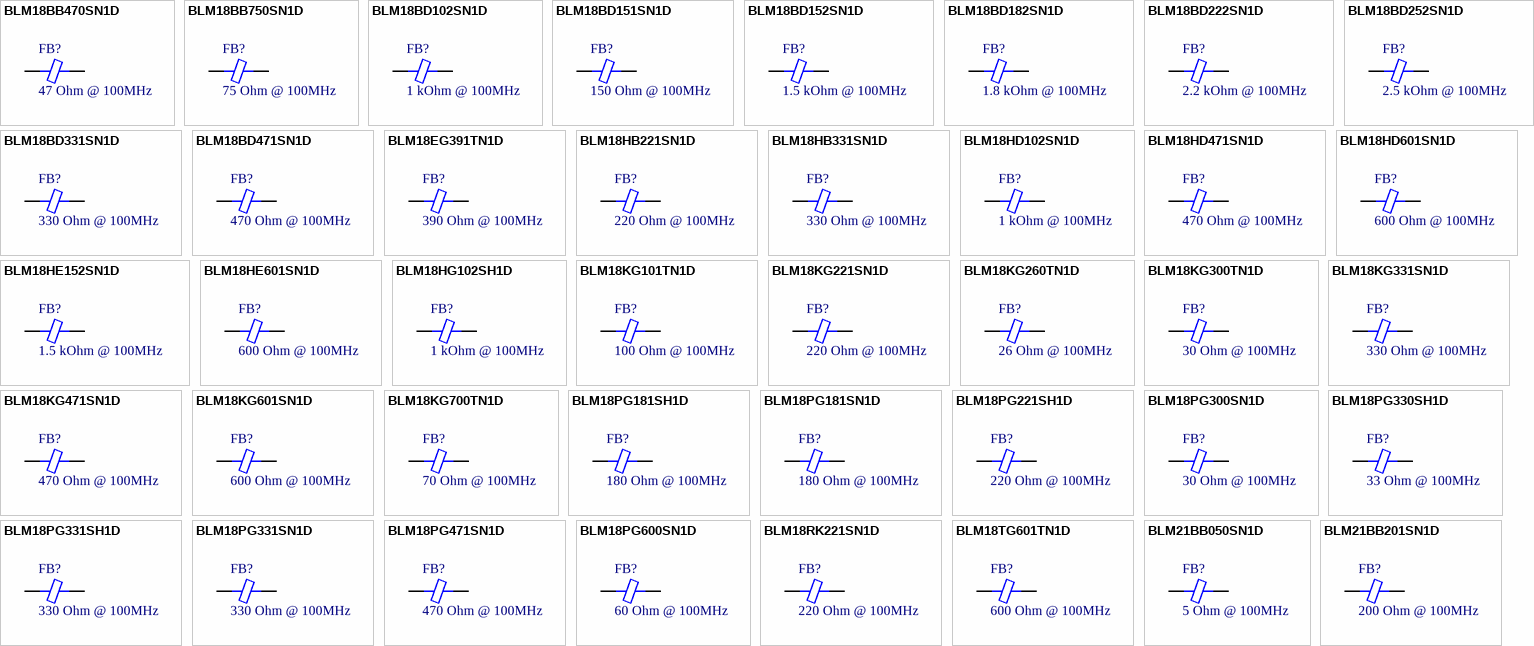
[diagram p5: symbols BLM18BB470SN1D to BLM21BB201SN1D]

## BLM18BB470SN1D
designator FB?, comment 47 Ohm @ 100MHz
FERRITE CHIP 47 OHM 550MA 0603; Part Number: BLM18BB470SN1D; Manufacturer: Murata Electronics North America; Type: Differential Mode - Single; DC Resistance: 250 mOhm Max; PartId: 6698; Value: 47 Ohm @ 100MHz; Supplier 1: Digi-Key; Supplier Part Number 1: 490-5208-2-ND; ComponentLink1Description: Datasheet; ComponentLink1URL: http://search.murata.co.jp/Ceramy/image/img/PDF/ENG/L0110S0100BLM18B.pdf; ComponentLink2Description: Digi-Key listing; ComponentLink2URL: http://digikey.com/product-detail/en/BLM18BB470SN1D/490-5208-2-ND/1948313; Price: 0.0331; Device Package: 0603 (1608 Metric); Current Rating: 550mA
footprint FER 0603/1608
pins: 1, 2

## BLM18BB750SN1D
designator FB?, comment 75 Ohm @ 100MHz
FERRITE CHIP 75 OHM 500MA 0603; Part Number: BLM18BB750SN1D; Manufacturer: Murata Electronics North America; Type: Differential Mode - Single; DC Resistance: 300 mOhm Max; PartId: 6704; Value: 75 Ohm @ 100MHz; Supplier 1: Digi-Key; Supplier Part Number 1: 490-5209-2-ND; ComponentLink1Description: Datasheet; ComponentLink1URL: http://search.murata.co.jp/Ceramy/image/img/PDF/ENG/L0110S0100BLM18B.pdf; ComponentLink2Description: Digi-Key listing; ComponentLink2URL: http://digikey.com/product-detail/en/BLM18BB750SN1D/490-5209-2-ND/1948314; Price: 0.0331; Device Package: 0603 (1608 Metric); Current Rating: 500mA
footprint FER 0603/1608
pins: 1, 2

## BLM18BD102SN1D
designator FB?, comment 1 kOhm @ 100MHz
FERRITE CHIP 1000 OHM 100MA 0603; Part Number: BLM18BD102SN1D; Manufacturer: Murata Electronics North America; Type: Differential Mode - Single; DC Resistance: 850 mOhm Max; PartId: 6695; Value: 1 kOhm @ 100MHz; Supplier 1: Digi-Key; Supplier Part Number 1: 490-1024-2-ND; ComponentLink1Description: Datasheet; ComponentLink1URL: http://search.murata.co.jp/Ceramy/image/img/PDF/ENG/L0110S0100BLM18B.pdf; ComponentLink2Description: Digi-Key listing; ComponentLink2URL: http://digikey.com/product-detail/en/BLM18BD102SN1D/490-1024-2-ND/584235; Price: 0.0331; Device Package: 0603 (1608 Metric); Current Rating: 100mA
footprint FER 0603/1608
pins: 1, 2

## BLM18BD151SN1D
designator FB?, comment 150 Ohm @ 100MHz
FERRITE CHIP 150 OHM 200MA 0603; Part Number: BLM18BD151SN1D; Manufacturer: Murata Electronics North America; Type: Differential Mode - Single; DC Resistance: 400 mOhm Max; PartId: 6707; Value: 150 Ohm @ 100MHz; Supplier 1: Digi-Key; Supplier Part Number 1: 490-5250-2-ND; ComponentLink1Description: Datasheet; ComponentLink1URL: http://search.murata.co.jp/Ceramy/image/img/PDF/ENG/L0110S0100BLM18B.pdf; ComponentLink2Description: Digi-Key listing; ComponentLink2URL: http://digikey.com/product-detail/en/BLM18BD151SN1D/490-5250-2-ND/1982758; Price: 0.0331; Device Package: 0603 (1608 Metric); Current Rating: 200mA
footprint FER 0603/1608
pins: 1, 2

## BLM18BD152SN1D
designator FB?, comment 1.5 kOhm @ 100MHz
FERRITE CHIP 1500 OHM 50MA 0603; Part Number: BLM18BD152SN1D; Manufacturer: Murata Electronics North America; Type: Differential Mode - Single; DC Resistance: 1.2 Ohm Max; PartId: 6687; Value: 1.5 kOhm @ 100MHz; Supplier 1: Digi-Key; Supplier Part Number 1: 490-1025-2-ND; ComponentLink1Description: Datasheet; ComponentLink1URL: http://search.murata.co.jp/Ceramy/image/img/PDF/ENG/L0110S0100BLM18B.pdf; ComponentLink2Description: Digi-Key listing; ComponentLink2URL: http://digikey.com/product-detail/en/BLM18BD152SN1D/490-1025-2-ND/584236; Price: 0.0323; Device Package: 0603 (1608 Metric); Current Rating: 50mA
footprint FER 0603/1608
pins: 1, 2

## BLM18BD182SN1D
designator FB?, comment 1.8 kOhm @ 100MHz
FERRITE CHIP 1800 OHM 50MA 0603; Part Number: BLM18BD182SN1D; Manufacturer: Murata Electronics North America; Type: Differential Mode - Single; DC Resistance: 1.5 Ohm Max; PartId: 6690; Value: 1.8 kOhm @ 100MHz; Supplier 1: Digi-Key; Supplier Part Number 1: 490-1026-2-ND; ComponentLink1Description: Datasheet; ComponentLink1URL: http://search.murata.co.jp/Ceramy/image/img/PDF/ENG/L0110S0100BLM18B.pdf; ComponentLink2Description: Digi-Key listing; ComponentLink2URL: http://digikey.com/product-detail/en/BLM18BD182SN1D/490-1026-2-ND/584237; Price: 0.0323; Device Package: 0603 (1608 Metric); Current Rating: 50mA
footprint FER 0603/1608
pins: 1, 2

## BLM18BD222SN1D
designator FB?, comment 2.2 kOhm @ 100MHz
FERRITE CHIP 2200 OHM 50MA 0603; Part Number: BLM18BD222SN1D; Manufacturer: Murata Electronics North America; Type: Differential Mode - Single; DC Resistance: 1.5 Ohm Max; PartId: 6682; Value: 2.2 kOhm @ 100MHz; Supplier 1: Digi-Key; Supplier Part Number 1: 490-1027-2-ND; ComponentLink1Description: Datasheet; ComponentLink1URL: http://search.murata.co.jp/Ceramy/image/img/PDF/ENG/L0110S0100BLM18B.pdf; ComponentLink2Description: Digi-Key listing; ComponentLink2URL: http://digikey.com/product-detail/en/BLM18BD222SN1D/490-1027-2-ND/584238; Price: 0.0323; Device Package: 0603 (1608 Metric); Current Rating: 50mA
footprint FER 0603/1608
pins: 1, 2

## BLM18BD252SN1D
designator FB?, comment 2.5 kOhm @ 100MHz
FERRITE CHIP 2500 OHM 50MA 0603; Part Number: BLM18BD252SN1D; Manufacturer: Murata Electronics North America; Type: Differential Mode - Single; DC Resistance: 1.5 Ohm Max; PartId: 6681; Value: 2.5 kOhm @ 100MHz; Supplier 1: Digi-Key; Supplier Part Number 1: 490-1028-2-ND; ComponentLink1Description: Datasheet; ComponentLink1URL: http://search.murata.co.jp/Ceramy/image/img/PDF/ENG/L0110S0100BLM18B.pdf; ComponentLink2Description: Digi-Key listing; ComponentLink2URL: http://digikey.com/product-detail/en/BLM18BD252SN1D/490-1028-2-ND/584239; Price: 0.0323; Device Package: 0603 (1608 Metric); Current Rating: 50mA
footprint FER 0603/1608
pins: 1, 2

## BLM18BD331SN1D
designator FB?, comment 330 Ohm @ 100MHz
FERRITE CHIP 330 OHM 200MA 0603; Part Number: BLM18BD331SN1D; Manufacturer: Murata Electronics North America; Type: Differential Mode - Single; DC Resistance: 500 mOhm Max; PartId: 6709; Value: 330 Ohm @ 100MHz; Supplier 1: Digi-Key; Supplier Part Number 1: 490-5251-2-ND; ComponentLink1Description: Datasheet; ComponentLink1URL: http://search.murata.co.jp/Ceramy/image/img/PDF/ENG/L0110S0100BLM18B.pdf; ComponentLink2Description: Digi-Key listing; ComponentLink2URL: http://digikey.com/product-detail/en/BLM18BD331SN1D/490-5251-2-ND/1982759; Price: 0.0331; Device Package: 0603 (1608 Metric); Current Rating: 200mA
footprint FER 0603/1608
pins: 1, 2

## BLM18BD471SN1D
designator FB?, comment 470 Ohm @ 100MHz
FERRITE CHIP 470 OHM 200MA 0603; Part Number: BLM18BD471SN1D; Manufacturer: Murata Electronics North America; Type: Differential Mode - Single; DC Resistance: 550 mOhm Max; PartId: 6699; Value: 470 Ohm @ 100MHz; Supplier 1: Digi-Key; Supplier Part Number 1: 490-1022-2-ND; ComponentLink1Description: Datasheet; ComponentLink1URL: http://search.murata.co.jp/Ceramy/image/img/PDF/ENG/L0110S0100BLM18B.pdf; ComponentLink2Description: Digi-Key listing; ComponentLink2URL: http://digikey.com/product-detail/en/BLM18BD471SN1D/490-1022-2-ND/584233; Price: 0.0331; Device Package: 0603 (1608 Metric); Current Rating: 200mA
footprint FER 0603/1608
pins: 1, 2

## BLM18EG391TN1D
designator FB?, comment 390 Ohm @ 100MHz
FERRITE CHIP 390 OHM 500MA 0603; Part Number: BLM18EG391TN1D; Manufacturer: Murata Electronics North America; Type: Differential Mode - Single; DC Resistance: 300 mOhm Max; PartId: 6737; Value: 390 Ohm @ 100MHz; Supplier 1: Digi-Key; Supplier Part Number 1: 490-5980-2-ND; ComponentLink1Description: Datasheet; ComponentLink1URL: http://search.murata.co.jp/Ceramy/image/img/PDF/ENG/L0110S0101BLM18E.pdf; ComponentLink2Description: Digi-Key listing; ComponentLink2URL: http://digikey.com/product-detail/en/BLM18EG391TN1D/490-5980-2-ND/2588029; Price: 0.0914; Device Package: 0603 (1608 Metric); Current Rating: 500mA
footprint FER 0603/1608
pins: 1, 2

## BLM18HB221SN1D
designator FB?, comment 220 Ohm @ 100MHz
FERRITE CHIP 220 OHM 100MA 0603; Part Number: BLM18HB221SN1D; Manufacturer: Murata Electronics North America; Type: Differential Mode - Single; DC Resistance: 800 mOhm Max; PartId: 6729; Value: 220 Ohm @ 100MHz; Supplier 1: Digi-Key; Supplier Part Number 1: 490-5983-2-ND; ComponentLink1Description: Datasheet; ComponentLink1URL: http://search.murata.co.jp/Ceramy/image/img/PDF/ENG/L0110S0101BLM18H.pdf; ComponentLink2Description: Digi-Key listing; ComponentLink2URL: http://digikey.com/product-detail/en/BLM18HB221SN1D/490-5983-2-ND/2588034; Price: 0.0562; Device Package: 0603 (1608 Metric); Current Rating: 100mA
footprint FER 0603/1608
pins: 1, 2

## BLM18HB331SN1D
designator FB?, comment 330 Ohm @ 100MHz
FERRITE CHIP 330 OHM 50MA 0603; Part Number: BLM18HB331SN1D; Manufacturer: Murata Electronics North America; Type: Differential Mode - Single; DC Resistance: 1.2 Ohm Max; PartId: 6730; Value: 330 Ohm @ 100MHz; Supplier 1: Digi-Key; Supplier Part Number 1: 490-5984-2-ND; ComponentLink1Description: Datasheet; ComponentLink1URL: http://search.murata.co.jp/Ceramy/image/img/PDF/ENG/L0110S0101BLM18H.pdf; ComponentLink2Description: Digi-Key listing; ComponentLink2URL: http://digikey.com/product-detail/en/BLM18HB331SN1D/490-5984-2-ND/2588035; Price: 0.0562; Device Package: 0603 (1608 Metric); Current Rating: 50mA
footprint FER 0603/1608
pins: 1, 2

## BLM18HD102SN1D
designator FB?, comment 1 kOhm @ 100MHz
FERRITE CHIP 1000 OHM 50MA 0603; Part Number: BLM18HD102SN1D; Manufacturer: Murata Electronics North America; Type: Differential Mode - Single; DC Resistance: 1.8 Ohm Max; PartId: 6733; Value: 1 kOhm @ 100MHz; Supplier 1: Digi-Key; Supplier Part Number 1: 490-1031-2-ND; ComponentLink1Description: Datasheet; ComponentLink1URL: http://search.murata.co.jp/Ceramy/image/img/PDF/ENG/L0110S0101BLM18H.pdf; ComponentLink2Description: Digi-Key listing; ComponentLink2URL: http://digikey.com/product-detail/en/BLM18HD102SN1D/490-1031-2-ND/584242; Price: 0.0666; Device Package: 0603 (1608 Metric); Current Rating: 50mA
footprint FER 0603/1608
pins: 1, 2